# Altium footprint library N-watch_3.1.PcbLib: 25 footprints (part 2 of 2)
Each footprint in its own frame and in the unit in brackets; x right, y up, seen from the top. Pads: shape width x height; smd on the part's side, far side on the other; paste and mask are expansions set on the pad; w line width, h text height; cw(c..) or ccw(c..) is an arc to the next point about the centre after c.
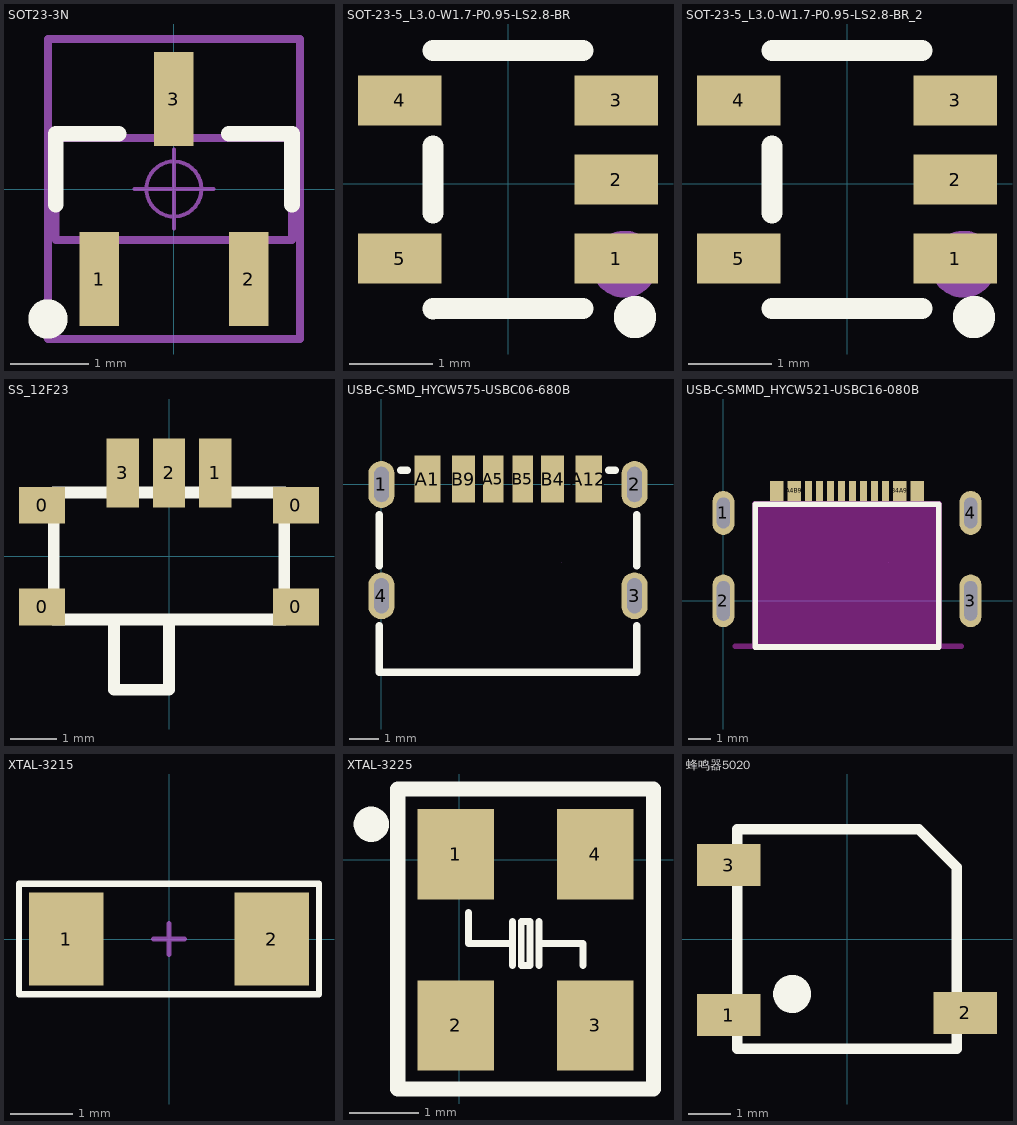
[diagram p1: the footprints below, top view; thin cyan lines are the x and y axes]

## SOT23-3N [mm] "3x1.3x1mm(长宽高)"
height 1.1
pads (3):
  rect 0.5x1.2 smd: 1(-0.95,-1.143) 2(0.95,-1.143) 3(0,1.143)
Top Overlay:
  circle w0.25: c-1.6,-1.651 r0.125
  lines w0.2: -1.501,-0.2 -1.501,0.7 -0.701,0.7 ; 0.699,0.7 1.499,0.7 1.499,-0.2
Mechanical 13:
  lines w0.1: -1.5,-0.65 1.5,-0.65 1.5,0.65 -1.5,0.65 -1.5,-0.65
Mechanical 15:
  circle w0.05: c0,0 r0.35
  lines w0.05: -0.5,0 0.5,0 ; 0,-0.5 0,0.5
  lines w0.1: -1.6,-1.905 1.6,-1.905 1.6,1.905 -1.6,1.905 -1.6,-1.905
3D body "SOT23-3.STEP": height 1.05, standoff 0, extent -1.5,-1.2 1.5,1.2

## SOT-23-5_L3.0-W1.7-P0.95-LS2.8-BR [mm]
pads (5):
  rect 1x0.6 smd: 1(1.3,-0.899) 2(1.3,0.05) 3(1.3,1) 4(-1.3,1.001) 5(-1.3,-0.899)
Top Overlay:
  circle w0.254: c1.524,-1.6 r0.127
  lines w0.254: -0.9,-1.5 0.9,-1.5 ; -0.9,-0.35 -0.9,0.45 ; -0.9,1.6 0.9,1.6
Mechanical 15:
  circle w0.4: c1.397,-0.965 r0.2

## SOT-23-5_L3.0-W1.7-P0.95-LS2.8-BR_2 [mm]
pads (5):
  rect 1x0.6 smd: 1(1.3,-0.899) 2(1.3,0.05) 3(1.3,1) 4(-1.3,1.001) 5(-1.3,-0.899)
Top Overlay:
  circle w0.254: c1.524,-1.6 r0.127
  lines w0.254: -0.9,-1.5 0.9,-1.5 ; -0.9,-0.35 -0.9,0.45 ; -0.9,1.6 0.9,1.6
Mechanical 15:
  circle w0.4: c1.397,-0.965 r0.2

## SS_12F23 [mm] "七脚小拨动开关"
height 1.4
pads (7):
  rect 1x0.8 smd: 0(-2.75,-1.1) 0(-2.75,1.1) 0(2.75,-1.1) 0(2.75,1.1)
  rect 0.7x1.5 smd: 1(1,1.8) 2(0,1.8) 3(-1,1.8)
Top Overlay:
  lines w0.254: -1.192,-1.375 -1.192,-2.896 0,-2.896 0,-1.375 ; -2.5,-1.375 -2.5,1.375 2.5,1.375 2.5,-1.375 -2.5,-1.375
3D body "Switch_mini_5x3mm_SPDT_Side_SMT.STEP": height 1.4, standoff -0.5, extent -2.975,-2.965 3.025,2.235

## USB-C-SMD_HYCW575-USBC06-680B [mm]
pads (10):
  oval 0.9x1.6 hole 0.5 slot 1.2 at 90 deg paste+0.102 mask+0.051: 1(0,0) 2(8.64,0) 3(8.64,-3.8) 4(0,-3.8)
  rect 0.9x1.6 smd paste+0.102 mask+0.051: A1(1.57,0.18) A12(7.07,0.18)
  rect 0.7x1.6 smd paste+0.102 mask+0.051: A5(3.82,0.18) B5(4.82,0.18)
  rect 0.8x1.6 smd paste+0.102 mask+0.051: B4(5.84,0.18) B9(2.8,0.18)
Top Overlay:
  lines w0.254: -0.08,-4.826 -0.08,-6.41 8.72,-6.41 8.72,-4.826 ; -0.08,-2.774 -0.08,-1.026 ; 0.667,0.49 0.889,0.49 ; 7.751,0.49 7.973,0.49 ; 8.72,-2.774 8.72,-1.026
Mechanical 15:
  lines w0.003: 6.161,-2.652 6.162,-2.651
3D body "XB-UC09-06CBG1-01F R.stp": height 3.23, standoff -0.63, extent -0.152,-6.451 8.788,0.349

## USB-C-SMMD_HYCW521-USBC16-080B [mm]
pads (16):
  oval 1x2 hole 0.6 slot 1.4 at 90 deg paste+0 mask+0.05: 1(0,4) 4(11.25,4)
  oval 1x2.4 hole 0.6 slot 1.8 at 90 deg paste+0 mask+0.05: 2(0,0) 3(11.25,0)
  rect 0.6x0.9 smd paste-100 mask+0.05: A1B12(2.425,5) A4B9(3.225,5) B1A12(8.825,5) B4A9(8.025,5)
  rect 0.3x0.9 smd paste-100 mask+0.05: A5(4.375,5) A6(5.375,5) A7(5.875,5) A8(6.875,5) B5(7.375,5) B6(6.375,5) B7(4.875,5) B8(3.875,5)
Top Overlay:
  lines w0.254: 1.455,-2.1 9.795,-2.1 9.795,4.4 1.455,4.4 1.455,-2.1
Keep-Out Layer:
  board cut-out: 5.625,4.405 9.816,4.405 9.816,-2.072 1.434,-2.072 1.434,4.151 1.434,4.405 1.688,4.405 5.752,4.405
Keep-Out Layer:
  lines w0.254: 0.546,-2.071 1.435,-2.071 1.435,4.406 5.626,4.406 ; 5.625,4.405 9.816,4.405 9.816,-2.072 10.832,-2.072
Mechanical 15:
  lines w0.003: 7.53,1.738 7.53,1.739
3D body "XB-U416R04LZ080.stp": height 2.43, standoff -0.73, extent -0.145,-2.072 11.395,5.128

## XTAL-3215 [mm]
pads (2):
  rect 1.2x1.5 smd: 1(-1.65,0) 2(1.65,0)
Top Overlay:
  lines w0.1: -2.413,-0.889 -2.413,0.889 2.413,0.889 2.413,-0.889 -2.413,-0.889
Mechanical 15:
  lines w0.076: -0.254,0 0.254,0 ; 0,-0.254 0,0.254
3D body "User Library-X3215.STEP": height 0.81, standoff 0, extent -1.6,-0.75 1.6,0.75

## XTAL-3225 [mm]
pads (4):
  rect 1.1x1.3 smd: 1(-0.051,0.076) 2(-0.051,-2.388) 3(1.956,-2.388) 4(1.956,0.076)
Top Overlay:
  circle w0.254: c-1.27,0.508 r0.127
  lines w0.1: 0.127,-0.762 0.127,-1.206 0.762,-1.206 ; 0.762,-1.524 0.762,-0.889 ; 1.143,-1.524 1.143,-0.889 ; 1.143,-1.206 1.778,-1.206 1.778,-1.524 ; 0.889,-1.524 0.889,-0.889 1.016,-0.889 1.016,-1.524 0.889,-1.524
  lines w0.22: -0.889,-3.302 2.794,-3.302 2.794,1.016 -0.889,1.016 -0.889,-3.302
3D body "XTAL-3225.STEP": height 0.8, standoff 0, extent -0.336,-2.743 2.164,0.457

## 蜂鸣器5020 [mm] "无源蜂鸣器"
height 2
pads (3):
  rect 1.5x1 smd: 1(-2.8,-1.8) 2(2.8,-1.75) 3(-2.8,1.75)
Top Overlay:
  circle w0.5: c-1.3,-1.3 r0.2
  lines w0.254: -2.6,-2.6 2.6,-2.6 2.6,1.7 1.7,2.6 -2.6,2.6 -2.6,-2.6
3D body "Beep_5020_SMT.STEP": height 2, standoff -0.01, extent -2.6,-2.625 2.6,2.575